# Altium footprint library 2.12-QFP封装.PcbLib: 44 footprints (part 1 of 3)
Each footprint in its own frame and in the unit in brackets; x right, y up, seen from the top. Pads: shape width x height; smd on the part's side, far side on the other; paste and mask are expansions set on the pad; w line width, h text height; cw(c..) or ccw(c..) is an arc to the next point about the centre after c.
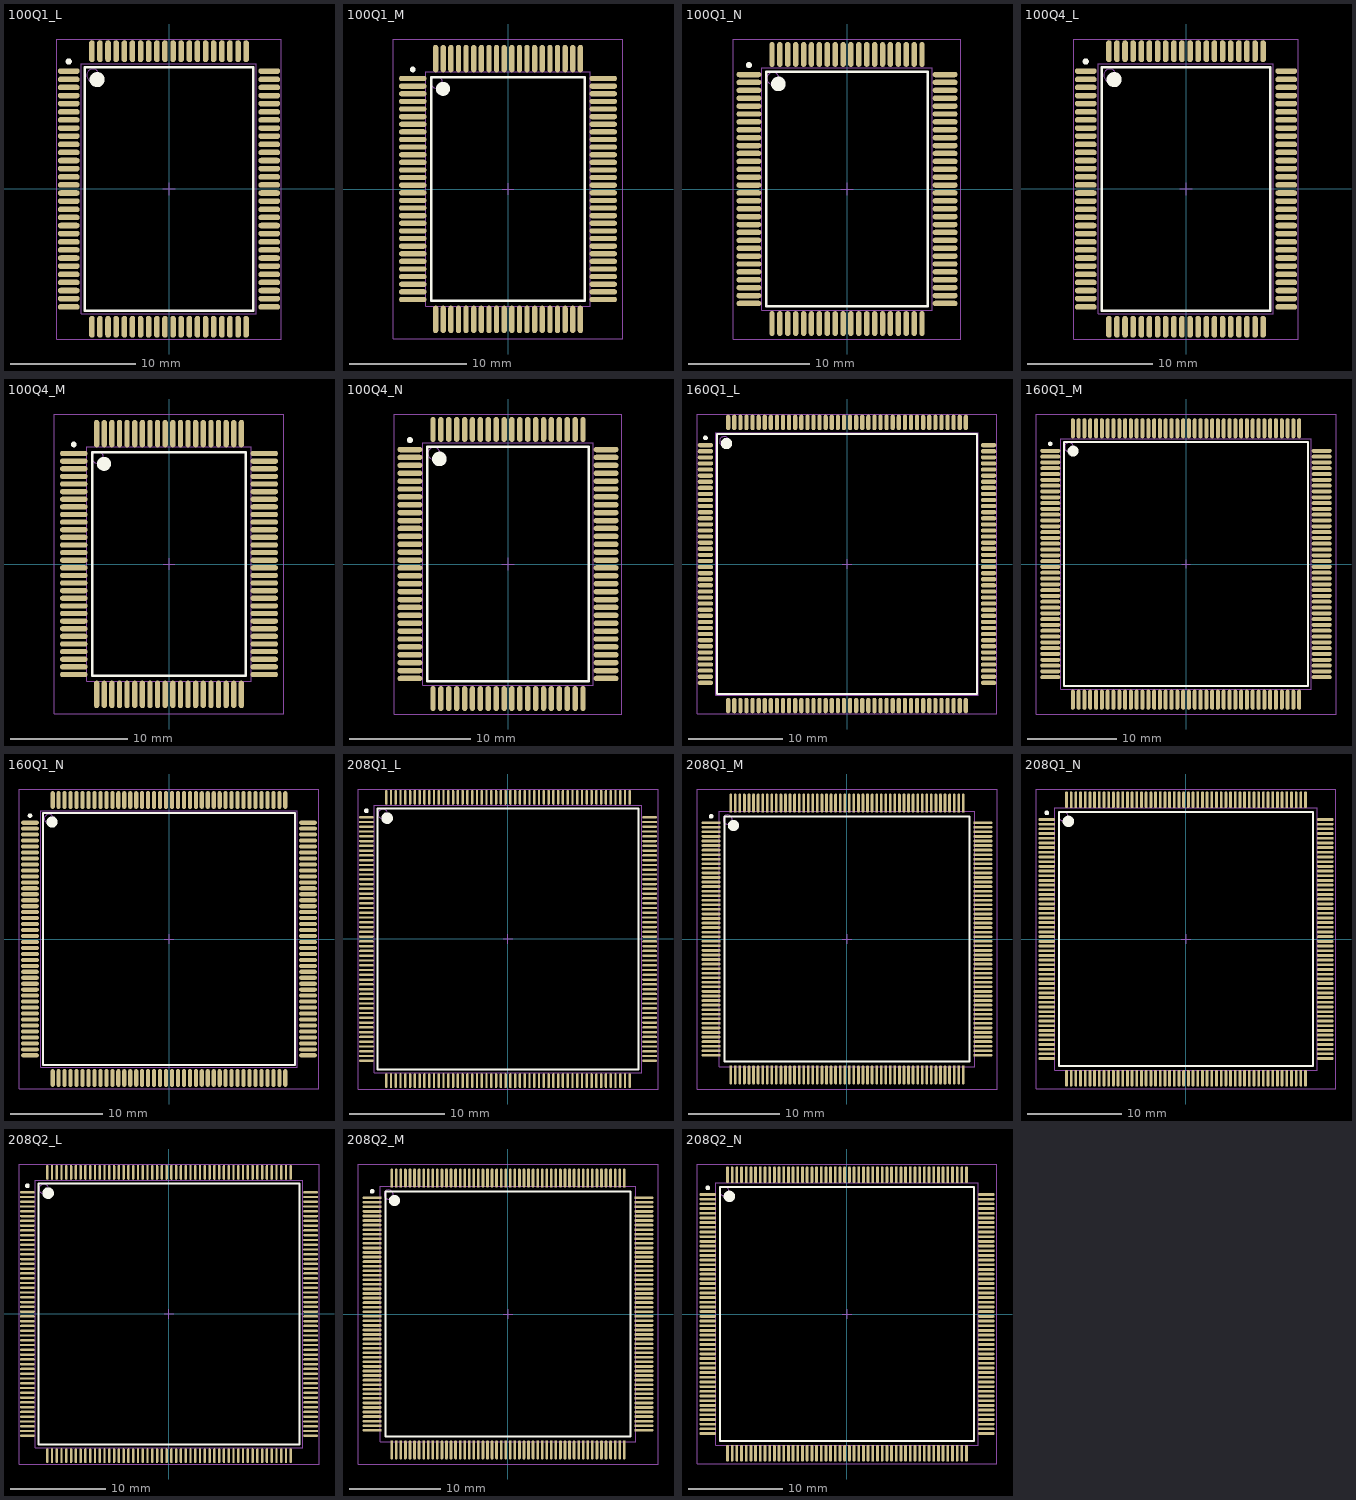
[diagram p0: the footprints below, top view; thin cyan lines are the x and y axes]

## 100Q1_L [mm] "100-Pin Quad Flat Pack Rectangular 0.65 mm Pitch      [ PCBѧϰȺ514746572 ]"
height 3.4
pads (100):
  oval 1.75x0.45 smd: 1(-8.025,9.425) 2(-8.025,8.775) 3(-8.025,8.125) 4(-8.025,7.475) 5(-8.025,6.825) 6(-8.025,6.175) 7(-8.025,5.525) 8(-8.025,4.875) 9(-8.025,4.225) 10(-8.025,3.575) 11(-8.025,2.925) 12(-8.025,2.275) 13(-8.025,1.625) 14(-8.025,0.975) 15(-8.025,0.325) 16(-8.025,-0.325) 17(-8.025,-0.975) 18(-8.025,-1.625) 19(-8.025,-2.275) 20(-8.025,-2.925) 21(-8.025,-3.575) 22(-8.025,-4.225) 23(-8.025,-4.875) 24(-8.025,-5.525) 25(-8.025,-6.175) 26(-8.025,-6.825) 27(-8.025,-7.475) 28(-8.025,-8.125) 29(-8.025,-8.775) 30(-8.025,-9.425) 51(8.025,-9.425) 52(8.025,-8.775) 53(8.025,-8.125) 54(8.025,-7.475) 55(8.025,-6.825) 56(8.025,-6.175) 57(8.025,-5.525) 58(8.025,-4.875) 59(8.025,-4.225) 60(8.025,-3.575) 61(8.025,-2.925) 62(8.025,-2.275) 63(8.025,-1.625) 64(8.025,-0.975) 65(8.025,-0.325) 66(8.025,0.325) 67(8.025,0.975) 68(8.025,1.625) 69(8.025,2.275) 70(8.025,2.925) 71(8.025,3.575) 72(8.025,4.225) 73(8.025,4.875) 74(8.025,5.525) 75(8.025,6.175) 76(8.025,6.825) 77(8.025,7.475) 78(8.025,8.125) 79(8.025,8.775) 80(8.025,9.425)
  oval 0.45x1.75 smd: 31(-6.175,-11.025) 32(-5.525,-11.025) 33(-4.875,-11.025) 34(-4.225,-11.025) 35(-3.575,-11.025) 36(-2.925,-11.025) 37(-2.275,-11.025) 38(-1.625,-11.025) 39(-0.975,-11.025) 40(-0.325,-11.025) 41(0.325,-11.025) 42(0.975,-11.025) 43(1.625,-11.025) 44(2.275,-11.025) 45(2.925,-11.025) 46(3.575,-11.025) 47(4.225,-11.025) 48(4.875,-11.025) 49(5.525,-11.025) 50(6.175,-11.025) 81(6.175,11.025) 82(5.525,11.025) 83(4.875,11.025) 84(4.225,11.025) 85(3.575,11.025) 86(2.925,11.025) 87(2.275,11.025) 88(1.625,11.025) 89(0.975,11.025) 90(0.325,11.025) 91(-0.325,11.025) 92(-0.975,11.025) 93(-1.625,11.025) 94(-2.275,11.025) 95(-2.925,11.025) 96(-3.575,11.025) 97(-4.225,11.025) 98(-4.875,11.025) 99(-5.525,11.025) 100(-6.175,11.025)
Top Overlay:
  circle w0.6: c-5.75,8.75 r0.3
  circle w0.25: c-8.025,10.2 r0.125
  lines w0.2: -6.75,-9.75 6.75,-9.75 6.75,9.75 -6.75,9.75 -6.75,-9.75
Mechanical 13:
  circle w0.1: c-6.1,9.1 r0.5
  lines w0.1: -7,-10 7,-10 7,10 -7,10 -7,-10
Mechanical 15:
  lines w0.1: -0.5,0 0.5,0 ; 0,-0.5 0,0.5 ; -9,-12 9,-12 9,12 -9,12 -9,-12
3D body: height 3.4, standoff 0, extent -7,-10 7,10

## 100Q1_M [mm] "100-Pin Quad Flat Pack Rectangular 0.65 mm Pitch, IPC Low Density      [ PCBѧϰȺ514746572 ]"
height 3.4
pads (100):
  oval 2.35x0.45 smd: 1(-8.125,9.425) 2(-8.125,8.775) 3(-8.125,8.125) 4(-8.125,7.475) 5(-8.125,6.825) 6(-8.125,6.175) 7(-8.125,5.525) 8(-8.125,4.875) 9(-8.125,4.225) 10(-8.125,3.575) 11(-8.125,2.925) 12(-8.125,2.275) 13(-8.125,1.625) 14(-8.125,0.975) 15(-8.125,0.325) 16(-8.125,-0.325) 17(-8.125,-0.975) 18(-8.125,-1.625) 19(-8.125,-2.275) 20(-8.125,-2.925) 21(-8.125,-3.575) 22(-8.125,-4.225) 23(-8.125,-4.875) 24(-8.125,-5.525) 25(-8.125,-6.175) 26(-8.125,-6.825) 27(-8.125,-7.475) 28(-8.125,-8.125) 29(-8.125,-8.775) 30(-8.125,-9.425) 51(8.125,-9.425) 52(8.125,-8.775) 53(8.125,-8.125) 54(8.125,-7.475) 55(8.125,-6.825) 56(8.125,-6.175) 57(8.125,-5.525) 58(8.125,-4.875) 59(8.125,-4.225) 60(8.125,-3.575) 61(8.125,-2.925) 62(8.125,-2.275) 63(8.125,-1.625) 64(8.125,-0.975) 65(8.125,-0.325) 66(8.125,0.325) 67(8.125,0.975) 68(8.125,1.625) 69(8.125,2.275) 70(8.125,2.925) 71(8.125,3.575) 72(8.125,4.225) 73(8.125,4.875) 74(8.125,5.525) 75(8.125,6.175) 76(8.125,6.825) 77(8.125,7.475) 78(8.125,8.125) 79(8.125,8.775) 80(8.125,9.425)
  oval 0.45x2.35 smd: 31(-6.175,-11.125) 32(-5.525,-11.125) 33(-4.875,-11.125) 34(-4.225,-11.125) 35(-3.575,-11.125) 36(-2.925,-11.125) 37(-2.275,-11.125) 38(-1.625,-11.125) 39(-0.975,-11.125) 40(-0.325,-11.125) 41(0.325,-11.125) 42(0.975,-11.125) 43(1.625,-11.125) 44(2.275,-11.125) 45(2.925,-11.125) 46(3.575,-11.125) 47(4.225,-11.125) 48(4.875,-11.125) 49(5.525,-11.125) 50(6.175,-11.125) 81(6.175,11.125) 82(5.525,11.125) 83(4.875,11.125) 84(4.225,11.125) 85(3.575,11.125) 86(2.925,11.125) 87(2.275,11.125) 88(1.625,11.125) 89(0.975,11.125) 90(0.325,11.125) 91(-0.325,11.125) 92(-0.975,11.125) 93(-1.625,11.125) 94(-2.275,11.125) 95(-2.925,11.125) 96(-3.575,11.125) 97(-4.225,11.125) 98(-4.875,11.125) 99(-5.525,11.125) 100(-6.175,11.125)
Top Overlay:
  circle w0.6: c-5.55,8.55 r0.3
  circle w0.25: c-8.125,10.2 r0.125
  lines w0.2: -6.55,-9.55 6.55,-9.55 6.55,9.55 -6.55,9.55 -6.55,-9.55
Mechanical 13:
  circle w0.1: c-6.1,9.1 r0.5
  lines w0.1: -7,-10 7,-10 7,10 -7,10 -7,-10
Mechanical 15:
  lines w0.1: -0.5,0 0.5,0 ; 0,-0.5 0,0.5 ; -9.8,-12.8 9.8,-12.8 9.8,12.8 -9.8,12.8 -9.8,-12.8
3D body: height 3.4, standoff 0, extent -7,-10 7,10

## 100Q1_N [mm] "100-Pin Quad Flat Pack Rectangular 0.65 mm Pitch, IPC Medium Density      [ PCBѧϰȺ514746572 ]"
height 3.4
pads (100):
  oval 2.05x0.45 smd: 1(-8.075,9.425) 2(-8.075,8.775) 3(-8.075,8.125) 4(-8.075,7.475) 5(-8.075,6.825) 6(-8.075,6.175) 7(-8.075,5.525) 8(-8.075,4.875) 9(-8.075,4.225) 10(-8.075,3.575) 11(-8.075,2.925) 12(-8.075,2.275) 13(-8.075,1.625) 14(-8.075,0.975) 15(-8.075,0.325) 16(-8.075,-0.325) 17(-8.075,-0.975) 18(-8.075,-1.625) 19(-8.075,-2.275) 20(-8.075,-2.925) 21(-8.075,-3.575) 22(-8.075,-4.225) 23(-8.075,-4.875) 24(-8.075,-5.525) 25(-8.075,-6.175) 26(-8.075,-6.825) 27(-8.075,-7.475) 28(-8.075,-8.125) 29(-8.075,-8.775) 30(-8.075,-9.425) 51(8.075,-9.425) 52(8.075,-8.775) 53(8.075,-8.125) 54(8.075,-7.475) 55(8.075,-6.825) 56(8.075,-6.175) 57(8.075,-5.525) 58(8.075,-4.875) 59(8.075,-4.225) 60(8.075,-3.575) 61(8.075,-2.925) 62(8.075,-2.275) 63(8.075,-1.625) 64(8.075,-0.975) 65(8.075,-0.325) 66(8.075,0.325) 67(8.075,0.975) 68(8.075,1.625) 69(8.075,2.275) 70(8.075,2.925) 71(8.075,3.575) 72(8.075,4.225) 73(8.075,4.875) 74(8.075,5.525) 75(8.075,6.175) 76(8.075,6.825) 77(8.075,7.475) 78(8.075,8.125) 79(8.075,8.775) 80(8.075,9.425)
  oval 0.45x2.05 smd: 31(-6.175,-11.075) 32(-5.525,-11.075) 33(-4.875,-11.075) 34(-4.225,-11.075) 35(-3.575,-11.075) 36(-2.925,-11.075) 37(-2.275,-11.075) 38(-1.625,-11.075) 39(-0.975,-11.075) 40(-0.325,-11.075) 41(0.325,-11.075) 42(0.975,-11.075) 43(1.625,-11.075) 44(2.275,-11.075) 45(2.925,-11.075) 46(3.575,-11.075) 47(4.225,-11.075) 48(4.875,-11.075) 49(5.525,-11.075) 50(6.175,-11.075) 81(6.175,11.075) 82(5.525,11.075) 83(4.875,11.075) 84(4.225,11.075) 85(3.575,11.075) 86(2.925,11.075) 87(2.275,11.075) 88(1.625,11.075) 89(0.975,11.075) 90(0.325,11.075) 91(-0.325,11.075) 92(-0.975,11.075) 93(-1.625,11.075) 94(-2.275,11.075) 95(-2.925,11.075) 96(-3.575,11.075) 97(-4.225,11.075) 98(-4.875,11.075) 99(-5.525,11.075) 100(-6.175,11.075)
Top Overlay:
  circle w0.6: c-5.65,8.65 r0.3
  circle w0.25: c-8.075,10.2 r0.125
  lines w0.2: -6.65,-9.65 6.65,-9.65 6.65,9.65 -6.65,9.65 -6.65,-9.65
Mechanical 13:
  circle w0.1: c-6.1,9.1 r0.5
  lines w0.1: -7,-10 7,-10 7,10 -7,10 -7,-10
Mechanical 15:
  lines w0.1: -0.5,0 0.5,0 ; 0,-0.5 0,0.5 ; -9.35,-12.35 9.35,-12.35 9.35,12.35 -9.35,12.35 -9.35,-12.35
3D body: height 3.4, standoff 0, extent -7,-10 7,10

## 100Q4_L [mm] "100-Pin Quad Flat Pack Rectangular 0.65 mm Pitch, IPC High Density      [ PCBѧϰȺ514746572 ]"
height 2.9
pads (100):
  oval 1.75x0.45 smd: 1(-8.025,9.425) 2(-8.025,8.775) 3(-8.025,8.125) 4(-8.025,7.475) 5(-8.025,6.825) 6(-8.025,6.175) 7(-8.025,5.525) 8(-8.025,4.875) 9(-8.025,4.225) 10(-8.025,3.575) 11(-8.025,2.925) 12(-8.025,2.275) 13(-8.025,1.625) 14(-8.025,0.975) 15(-8.025,0.325) 16(-8.025,-0.325) 17(-8.025,-0.975) 18(-8.025,-1.625) 19(-8.025,-2.275) 20(-8.025,-2.925) 21(-8.025,-3.575) 22(-8.025,-4.225) 23(-8.025,-4.875) 24(-8.025,-5.525) 25(-8.025,-6.175) 26(-8.025,-6.825) 27(-8.025,-7.475) 28(-8.025,-8.125) 29(-8.025,-8.775) 30(-8.025,-9.425) 51(8.025,-9.425) 52(8.025,-8.775) 53(8.025,-8.125) 54(8.025,-7.475) 55(8.025,-6.825) 56(8.025,-6.175) 57(8.025,-5.525) 58(8.025,-4.875) 59(8.025,-4.225) 60(8.025,-3.575) 61(8.025,-2.925) 62(8.025,-2.275) 63(8.025,-1.625) 64(8.025,-0.975) 65(8.025,-0.325) 66(8.025,0.325) 67(8.025,0.975) 68(8.025,1.625) 69(8.025,2.275) 70(8.025,2.925) 71(8.025,3.575) 72(8.025,4.225) 73(8.025,4.875) 74(8.025,5.525) 75(8.025,6.175) 76(8.025,6.825) 77(8.025,7.475) 78(8.025,8.125) 79(8.025,8.775) 80(8.025,9.425)
  oval 0.45x1.75 smd: 31(-6.175,-11.025) 32(-5.525,-11.025) 33(-4.875,-11.025) 34(-4.225,-11.025) 35(-3.575,-11.025) 36(-2.925,-11.025) 37(-2.275,-11.025) 38(-1.625,-11.025) 39(-0.975,-11.025) 40(-0.325,-11.025) 41(0.325,-11.025) 42(0.975,-11.025) 43(1.625,-11.025) 44(2.275,-11.025) 45(2.925,-11.025) 46(3.575,-11.025) 47(4.225,-11.025) 48(4.875,-11.025) 49(5.525,-11.025) 50(6.175,-11.025) 81(6.175,11.025) 82(5.525,11.025) 83(4.875,11.025) 84(4.225,11.025) 85(3.575,11.025) 86(2.925,11.025) 87(2.275,11.025) 88(1.625,11.025) 89(0.975,11.025) 90(0.325,11.025) 91(-0.325,11.025) 92(-0.975,11.025) 93(-1.625,11.025) 94(-2.275,11.025) 95(-2.925,11.025) 96(-3.575,11.025) 97(-4.225,11.025) 98(-4.875,11.025) 99(-5.525,11.025) 100(-6.175,11.025)
Top Overlay:
  circle w0.25: c-8.025,10.2 r0.125
  circle w0.6: c-5.75,8.75 r0.3
  lines w0.2: -6.75,-9.75 -6.75,9.75 6.75,9.75 6.75,-9.75 -6.75,-9.75
Mechanical 13:
  circle w0.1: c-6.1,9.1 r0.5
  lines w0.1: -7,-10 -7,10 7,10 7,-10 -7,-10
Mechanical 15:
  lines w0.1: -0.5,0 0.5,0 ; 0,-0.5 0,0.5 ; -9,-12 -9,12 9,12 9,-12 -9,-12
3D body: height 2.9, standoff 0, extent -7,-10 7,10

## 100Q4_M [mm] "100-Pin Quad Flat Pack Rectangular 0.65 mm Pitch, IPC Low Density      [ PCBѧϰȺ514746572 ]"
height 2.9
pads (100):
  oval 2.35x0.45 smd: 1(-8.125,9.425) 2(-8.125,8.775) 3(-8.125,8.125) 4(-8.125,7.475) 5(-8.125,6.825) 6(-8.125,6.175) 7(-8.125,5.525) 8(-8.125,4.875) 9(-8.125,4.225) 10(-8.125,3.575) 11(-8.125,2.925) 12(-8.125,2.275) 13(-8.125,1.625) 14(-8.125,0.975) 15(-8.125,0.325) 16(-8.125,-0.325) 17(-8.125,-0.975) 18(-8.125,-1.625) 19(-8.125,-2.275) 20(-8.125,-2.925) 21(-8.125,-3.575) 22(-8.125,-4.225) 23(-8.125,-4.875) 24(-8.125,-5.525) 25(-8.125,-6.175) 26(-8.125,-6.825) 27(-8.125,-7.475) 28(-8.125,-8.125) 29(-8.125,-8.775) 30(-8.125,-9.425) 51(8.125,-9.425) 52(8.125,-8.775) 53(8.125,-8.125) 54(8.125,-7.475) 55(8.125,-6.825) 56(8.125,-6.175) 57(8.125,-5.525) 58(8.125,-4.875) 59(8.125,-4.225) 60(8.125,-3.575) 61(8.125,-2.925) 62(8.125,-2.275) 63(8.125,-1.625) 64(8.125,-0.975) 65(8.125,-0.325) 66(8.125,0.325) 67(8.125,0.975) 68(8.125,1.625) 69(8.125,2.275) 70(8.125,2.925) 71(8.125,3.575) 72(8.125,4.225) 73(8.125,4.875) 74(8.125,5.525) 75(8.125,6.175) 76(8.125,6.825) 77(8.125,7.475) 78(8.125,8.125) 79(8.125,8.775) 80(8.125,9.425)
  oval 0.45x2.35 smd: 31(-6.175,-11.125) 32(-5.525,-11.125) 33(-4.875,-11.125) 34(-4.225,-11.125) 35(-3.575,-11.125) 36(-2.925,-11.125) 37(-2.275,-11.125) 38(-1.625,-11.125) 39(-0.975,-11.125) 40(-0.325,-11.125) 41(0.325,-11.125) 42(0.975,-11.125) 43(1.625,-11.125) 44(2.275,-11.125) 45(2.925,-11.125) 46(3.575,-11.125) 47(4.225,-11.125) 48(4.875,-11.125) 49(5.525,-11.125) 50(6.175,-11.125) 81(6.175,11.125) 82(5.525,11.125) 83(4.875,11.125) 84(4.225,11.125) 85(3.575,11.125) 86(2.925,11.125) 87(2.275,11.125) 88(1.625,11.125) 89(0.975,11.125) 90(0.325,11.125) 91(-0.325,11.125) 92(-0.975,11.125) 93(-1.625,11.125) 94(-2.275,11.125) 95(-2.925,11.125) 96(-3.575,11.125) 97(-4.225,11.125) 98(-4.875,11.125) 99(-5.525,11.125) 100(-6.175,11.125)
Top Overlay:
  circle w0.25: c-8.125,10.2 r0.125
  circle w0.6: c-5.55,8.55 r0.3
  lines w0.2: -6.55,-9.55 -6.55,9.55 6.55,9.55 6.55,-9.55 -6.55,-9.55
Mechanical 13:
  circle w0.1: c-6.1,9.1 r0.5
  lines w0.1: -7,-10 -7,10 7,10 7,-10 -7,-10
Mechanical 15:
  lines w0.1: -0.5,0 0.5,0 ; 0,-0.5 0,0.5 ; -9.8,-12.8 -9.8,12.8 9.8,12.8 9.8,-12.8 -9.8,-12.8
3D body: height 2.9, standoff 0, extent -7,-10 7,10

## 100Q4_N [mm] "100-Pin Quad Flat Pack Rectangular 0.65 mm Pitch, IPC Medium Density      [ PCBѧϰȺ514746572 ]"
height 2.9
pads (100):
  oval 2.05x0.45 smd: 1(-8.075,9.425) 2(-8.075,8.775) 3(-8.075,8.125) 4(-8.075,7.475) 5(-8.075,6.825) 6(-8.075,6.175) 7(-8.075,5.525) 8(-8.075,4.875) 9(-8.075,4.225) 10(-8.075,3.575) 11(-8.075,2.925) 12(-8.075,2.275) 13(-8.075,1.625) 14(-8.075,0.975) 15(-8.075,0.325) 16(-8.075,-0.325) 17(-8.075,-0.975) 18(-8.075,-1.625) 19(-8.075,-2.275) 20(-8.075,-2.925) 21(-8.075,-3.575) 22(-8.075,-4.225) 23(-8.075,-4.875) 24(-8.075,-5.525) 25(-8.075,-6.175) 26(-8.075,-6.825) 27(-8.075,-7.475) 28(-8.075,-8.125) 29(-8.075,-8.775) 30(-8.075,-9.425) 51(8.075,-9.425) 52(8.075,-8.775) 53(8.075,-8.125) 54(8.075,-7.475) 55(8.075,-6.825) 56(8.075,-6.175) 57(8.075,-5.525) 58(8.075,-4.875) 59(8.075,-4.225) 60(8.075,-3.575) 61(8.075,-2.925) 62(8.075,-2.275) 63(8.075,-1.625) 64(8.075,-0.975) 65(8.075,-0.325) 66(8.075,0.325) 67(8.075,0.975) 68(8.075,1.625) 69(8.075,2.275) 70(8.075,2.925) 71(8.075,3.575) 72(8.075,4.225) 73(8.075,4.875) 74(8.075,5.525) 75(8.075,6.175) 76(8.075,6.825) 77(8.075,7.475) 78(8.075,8.125) 79(8.075,8.775) 80(8.075,9.425)
  oval 0.45x2.05 smd: 31(-6.175,-11.075) 32(-5.525,-11.075) 33(-4.875,-11.075) 34(-4.225,-11.075) 35(-3.575,-11.075) 36(-2.925,-11.075) 37(-2.275,-11.075) 38(-1.625,-11.075) 39(-0.975,-11.075) 40(-0.325,-11.075) 41(0.325,-11.075) 42(0.975,-11.075) 43(1.625,-11.075) 44(2.275,-11.075) 45(2.925,-11.075) 46(3.575,-11.075) 47(4.225,-11.075) 48(4.875,-11.075) 49(5.525,-11.075) 50(6.175,-11.075) 81(6.175,11.075) 82(5.525,11.075) 83(4.875,11.075) 84(4.225,11.075) 85(3.575,11.075) 86(2.925,11.075) 87(2.275,11.075) 88(1.625,11.075) 89(0.975,11.075) 90(0.325,11.075) 91(-0.325,11.075) 92(-0.975,11.075) 93(-1.625,11.075) 94(-2.275,11.075) 95(-2.925,11.075) 96(-3.575,11.075) 97(-4.225,11.075) 98(-4.875,11.075) 99(-5.525,11.075) 100(-6.175,11.075)
Top Overlay:
  circle w0.25: c-8.075,10.2 r0.125
  circle w0.6: c-5.65,8.65 r0.3
  lines w0.2: -6.65,-9.65 -6.65,9.65 6.65,9.65 6.65,-9.65 -6.65,-9.65
Mechanical 13:
  circle w0.1: c-6.1,9.1 r0.5
  lines w0.1: -7,-10 -7,10 7,10 7,-10 -7,-10
Mechanical 15:
  lines w0.1: -0.5,0 0.5,0 ; 0,-0.5 0,0.5 ; -9.35,-12.35 -9.35,12.35 9.35,12.35 9.35,-12.35 -9.35,-12.35
3D body: height 2.9, standoff 0, extent -7,-10 7,10

## 160Q1_L [mm] "160-Pin Quad Flat Pack 0.65 mm Pitch, IPC High Density      [ PCBѧϰȺ514746572 ]"
height 3.6
pads (160):
  oval 1.65x0.45 smd: 1(-15.1,12.675) 2(-15.1,12.025) 3(-15.1,11.375) 4(-15.1,10.725) 5(-15.1,10.075) 6(-15.1,9.425) 7(-15.1,8.775) 8(-15.1,8.125) 9(-15.1,7.475) 10(-15.1,6.825) 11(-15.1,6.175) 12(-15.1,5.525) 13(-15.1,4.875) 14(-15.1,4.225) 15(-15.1,3.575) 16(-15.1,2.925) 17(-15.1,2.275) 18(-15.1,1.625) 19(-15.1,0.975) 20(-15.1,0.325) 21(-15.1,-0.325) 22(-15.1,-0.975) 23(-15.1,-1.625) 24(-15.1,-2.275) 25(-15.1,-2.925) 26(-15.1,-3.575) 27(-15.1,-4.225) 28(-15.1,-4.875) 29(-15.1,-5.525) 30(-15.1,-6.175) 31(-15.1,-6.825) 32(-15.1,-7.475) 33(-15.1,-8.125) 34(-15.1,-8.775) 35(-15.1,-9.425) 36(-15.1,-10.075) 37(-15.1,-10.725) 38(-15.1,-11.375) 39(-15.1,-12.025) 40(-15.1,-12.675) 81(15.1,-12.675) 82(15.1,-12.025) 83(15.1,-11.375) 84(15.1,-10.725) 85(15.1,-10.075) 86(15.1,-9.425) 87(15.1,-8.775) 88(15.1,-8.125) 89(15.1,-7.475) 90(15.1,-6.825) 91(15.1,-6.175) 92(15.1,-5.525) 93(15.1,-4.875) 94(15.1,-4.225) 95(15.1,-3.575) 96(15.1,-2.925) 97(15.1,-2.275) 98(15.1,-1.625) 99(15.1,-0.975) 100(15.1,-0.325) 101(15.1,0.325) 102(15.1,0.975) 103(15.1,1.625) 104(15.1,2.275) 105(15.1,2.925) 106(15.1,3.575) 107(15.1,4.225) 108(15.1,4.875) 109(15.1,5.525) 110(15.1,6.175) 111(15.1,6.825) 112(15.1,7.475) 113(15.1,8.125) 114(15.1,8.775) 115(15.1,9.425) 116(15.1,10.075) 117(15.1,10.725) 118(15.1,11.375) 119(15.1,12.025) 120(15.1,12.675)
  oval 0.45x1.65 smd: 41(-12.675,-15.1) 42(-12.025,-15.1) 43(-11.375,-15.1) 44(-10.725,-15.1) 45(-10.075,-15.1) 46(-9.425,-15.1) 47(-8.775,-15.1) 48(-8.125,-15.1) 49(-7.475,-15.1) 50(-6.825,-15.1) 51(-6.175,-15.1) 52(-5.525,-15.1) 53(-4.875,-15.1) 54(-4.225,-15.1) 55(-3.575,-15.1) 56(-2.925,-15.1) 57(-2.275,-15.1) 58(-1.625,-15.1) 59(-0.975,-15.1) 60(-0.325,-15.1) 61(0.325,-15.1) 62(0.975,-15.1) 63(1.625,-15.1) 64(2.275,-15.1) 65(2.925,-15.1) 66(3.575,-15.1) 67(4.225,-15.1) 68(4.875,-15.1) 69(5.525,-15.1) 70(6.175,-15.1) 71(6.825,-15.1) 72(7.475,-15.1) 73(8.125,-15.1) 74(8.775,-15.1) 75(9.425,-15.1) 76(10.075,-15.1) 77(10.725,-15.1) 78(11.375,-15.1) 79(12.025,-15.1) 80(12.675,-15.1) 121(12.675,15.1) 122(12.025,15.1) 123(11.375,15.1) 124(10.725,15.1) 125(10.075,15.1) 126(9.425,15.1) 127(8.775,15.1) 128(8.125,15.1) 129(7.475,15.1) 130(6.825,15.1) 131(6.175,15.1) 132(5.525,15.1) 133(4.875,15.1) 134(4.225,15.1) 135(3.575,15.1) 136(2.925,15.1) 137(2.275,15.1) 138(1.625,15.1) 139(0.975,15.1) 140(0.325,15.1) 141(-0.325,15.1) 142(-0.975,15.1) 143(-1.625,15.1) 144(-2.275,15.1) 145(-2.925,15.1) 146(-3.575,15.1) 147(-4.225,15.1) 148(-4.875,15.1) 149(-5.525,15.1) 150(-6.175,15.1) 151(-6.825,15.1) 152(-7.475,15.1) 153(-8.125,15.1) 154(-8.775,15.1) 155(-9.425,15.1) 156(-10.075,15.1) 157(-10.725,15.1) 158(-11.375,15.1) 159(-12.025,15.1) 160(-12.675,15.1)
Top Overlay:
  circle w0.6: c-12.85,12.85 r0.3
  circle w0.25: c-15.1,13.45 r0.125
  lines w0.2: -13.85,-13.85 13.85,-13.85 13.85,13.85 -13.85,13.85 -13.85,-13.85
Mechanical 13:
  circle w0.1: c-13.1,13.1 r0.5
  lines w0.1: -14,-14 14,-14 14,14 -14,14 -14,-14
Mechanical 15:
  lines w0.1: -0.5,0 0.5,0 ; 0,-0.5 0,0.5 ; -16,-16 16,-16 16,16 -16,16 -16,-16
3D body: height 3.6, standoff 0, extent -14,-14 14,14

## 160Q1_M [mm] "160-Pin Quad Flat Pack 0.65 mm Pitch, IPC Low Density      [ PCBѧϰȺ514746572 ]"
height 3.6
pads (160):
  oval 2.25x0.45 smd: 1(-15.2,12.675) 2(-15.2,12.025) 3(-15.2,11.375) 4(-15.2,10.725) 5(-15.2,10.075) 6(-15.2,9.425) 7(-15.2,8.775) 8(-15.2,8.125) 9(-15.2,7.475) 10(-15.2,6.825) 11(-15.2,6.175) 12(-15.2,5.525) 13(-15.2,4.875) 14(-15.2,4.225) 15(-15.2,3.575) 16(-15.2,2.925) 17(-15.2,2.275) 18(-15.2,1.625) 19(-15.2,0.975) 20(-15.2,0.325) 21(-15.2,-0.325) 22(-15.2,-0.975) 23(-15.2,-1.625) 24(-15.2,-2.275) 25(-15.2,-2.925) 26(-15.2,-3.575) 27(-15.2,-4.225) 28(-15.2,-4.875) 29(-15.2,-5.525) 30(-15.2,-6.175) 31(-15.2,-6.825) 32(-15.2,-7.475) 33(-15.2,-8.125) 34(-15.2,-8.775) 35(-15.2,-9.425) 36(-15.2,-10.075) 37(-15.2,-10.725) 38(-15.2,-11.375) 39(-15.2,-12.025) 40(-15.2,-12.675) 81(15.2,-12.675) 82(15.2,-12.025) 83(15.2,-11.375) 84(15.2,-10.725) 85(15.2,-10.075) 86(15.2,-9.425) 87(15.2,-8.775) 88(15.2,-8.125) 89(15.2,-7.475) 90(15.2,-6.825) 91(15.2,-6.175) 92(15.2,-5.525) 93(15.2,-4.875) 94(15.2,-4.225) 95(15.2,-3.575) 96(15.2,-2.925) 97(15.2,-2.275) 98(15.2,-1.625) 99(15.2,-0.975) 100(15.2,-0.325) 101(15.2,0.325) 102(15.2,0.975) 103(15.2,1.625) 104(15.2,2.275) 105(15.2,2.925) 106(15.2,3.575) 107(15.2,4.225) 108(15.2,4.875) 109(15.2,5.525) 110(15.2,6.175) 111(15.2,6.825) 112(15.2,7.475) 113(15.2,8.125) 114(15.2,8.775) 115(15.2,9.425) 116(15.2,10.075) 117(15.2,10.725) 118(15.2,11.375) 119(15.2,12.025) 120(15.2,12.675)
  oval 0.45x2.25 smd: 41(-12.675,-15.2) 42(-12.025,-15.2) 43(-11.375,-15.2) 44(-10.725,-15.2) 45(-10.075,-15.2) 46(-9.425,-15.2) 47(-8.775,-15.2) 48(-8.125,-15.2) 49(-7.475,-15.2) 50(-6.825,-15.2) 51(-6.175,-15.2) 52(-5.525,-15.2) 53(-4.875,-15.2) 54(-4.225,-15.2) 55(-3.575,-15.2) 56(-2.925,-15.2) 57(-2.275,-15.2) 58(-1.625,-15.2) 59(-0.975,-15.2) 60(-0.325,-15.2) 61(0.325,-15.2) 62(0.975,-15.2) 63(1.625,-15.2) 64(2.275,-15.2) 65(2.925,-15.2) 66(3.575,-15.2) 67(4.225,-15.2) 68(4.875,-15.2) 69(5.525,-15.2) 70(6.175,-15.2) 71(6.825,-15.2) 72(7.475,-15.2) 73(8.125,-15.2) 74(8.775,-15.2) 75(9.425,-15.2) 76(10.075,-15.2) 77(10.725,-15.2) 78(11.375,-15.2) 79(12.025,-15.2) 80(12.675,-15.2) 121(12.675,15.2) 122(12.025,15.2) 123(11.375,15.2) 124(10.725,15.2) 125(10.075,15.2) 126(9.425,15.2) 127(8.775,15.2) 128(8.125,15.2) 129(7.475,15.2) 130(6.825,15.2) 131(6.175,15.2) 132(5.525,15.2) 133(4.875,15.2) 134(4.225,15.2) 135(3.575,15.2) 136(2.925,15.2) 137(2.275,15.2) 138(1.625,15.2) 139(0.975,15.2) 140(0.325,15.2) 141(-0.325,15.2) 142(-0.975,15.2) 143(-1.625,15.2) 144(-2.275,15.2) 145(-2.925,15.2) 146(-3.575,15.2) 147(-4.225,15.2) 148(-4.875,15.2) 149(-5.525,15.2) 150(-6.175,15.2) 151(-6.825,15.2) 152(-7.475,15.2) 153(-8.125,15.2) 154(-8.775,15.2) 155(-9.425,15.2) 156(-10.075,15.2) 157(-10.725,15.2) 158(-11.375,15.2) 159(-12.025,15.2) 160(-12.675,15.2)
Top Overlay:
  circle w0.6: c-12.65,12.65 r0.3
  circle w0.25: c-15.2,13.45 r0.125
  lines w0.2: -13.65,-13.65 13.65,-13.65 13.65,13.65 -13.65,13.65 -13.65,-13.65
Mechanical 13:
  circle w0.1: c-13.1,13.1 r0.5
  lines w0.1: -14,-14 14,-14 14,14 -14,14 -14,-14
Mechanical 15:
  lines w0.1: -0.5,0 0.5,0 ; 0,-0.5 0,0.5 ; -16.8,-16.8 16.8,-16.8 16.8,16.8 -16.8,16.8 -16.8,-16.8
3D body: height 3.6, standoff 0, extent -14,-14 14,14

## 160Q1_N [mm] "160-Pin Quad Flat Pack 0.65 mm Pitch, IPC Medium Density      [ PCBѧϰȺ514746572 ]"
height 3.6
pads (160):
  oval 1.95x0.45 smd: 1(-15.15,12.675) 2(-15.15,12.025) 3(-15.15,11.375) 4(-15.15,10.725) 5(-15.15,10.075) 6(-15.15,9.425) 7(-15.15,8.775) 8(-15.15,8.125) 9(-15.15,7.475) 10(-15.15,6.825) 11(-15.15,6.175) 12(-15.15,5.525) 13(-15.15,4.875) 14(-15.15,4.225) 15(-15.15,3.575) 16(-15.15,2.925) 17(-15.15,2.275) 18(-15.15,1.625) 19(-15.15,0.975) 20(-15.15,0.325) 21(-15.15,-0.325) 22(-15.15,-0.975) 23(-15.15,-1.625) 24(-15.15,-2.275) 25(-15.15,-2.925) 26(-15.15,-3.575) 27(-15.15,-4.225) 28(-15.15,-4.875) 29(-15.15,-5.525) 30(-15.15,-6.175) 31(-15.15,-6.825) 32(-15.15,-7.475) 33(-15.15,-8.125) 34(-15.15,-8.775) 35(-15.15,-9.425) 36(-15.15,-10.075) 37(-15.15,-10.725) 38(-15.15,-11.375) 39(-15.15,-12.025) 40(-15.15,-12.675) 81(15.15,-12.675) 82(15.15,-12.025) 83(15.15,-11.375) 84(15.15,-10.725) 85(15.15,-10.075) 86(15.15,-9.425) 87(15.15,-8.775) 88(15.15,-8.125) 89(15.15,-7.475) 90(15.15,-6.825) 91(15.15,-6.175) 92(15.15,-5.525) 93(15.15,-4.875) 94(15.15,-4.225) 95(15.15,-3.575) 96(15.15,-2.925) 97(15.15,-2.275) 98(15.15,-1.625) 99(15.15,-0.975) 100(15.15,-0.325) 101(15.15,0.325) 102(15.15,0.975) 103(15.15,1.625) 104(15.15,2.275) 105(15.15,2.925) 106(15.15,3.575) 107(15.15,4.225) 108(15.15,4.875) 109(15.15,5.525) 110(15.15,6.175) 111(15.15,6.825) 112(15.15,7.475) 113(15.15,8.125) 114(15.15,8.775) 115(15.15,9.425) 116(15.15,10.075) 117(15.15,10.725) 118(15.15,11.375) 119(15.15,12.025) 120(15.15,12.675)
  oval 0.45x1.95 smd: 41(-12.675,-15.15) 42(-12.025,-15.15) 43(-11.375,-15.15) 44(-10.725,-15.15) 45(-10.075,-15.15) 46(-9.425,-15.15) 47(-8.775,-15.15) 48(-8.125,-15.15) 49(-7.475,-15.15) 50(-6.825,-15.15) 51(-6.175,-15.15) 52(-5.525,-15.15) 53(-4.875,-15.15) 54(-4.225,-15.15) 55(-3.575,-15.15) 56(-2.925,-15.15) 57(-2.275,-15.15) 58(-1.625,-15.15) 59(-0.975,-15.15) 60(-0.325,-15.15) 61(0.325,-15.15) 62(0.975,-15.15) 63(1.625,-15.15) 64(2.275,-15.15) 65(2.925,-15.15) 66(3.575,-15.15) 67(4.225,-15.15) 68(4.875,-15.15) 69(5.525,-15.15) 70(6.175,-15.15) 71(6.825,-15.15) 72(7.475,-15.15) 73(8.125,-15.15) 74(8.775,-15.15) 75(9.425,-15.15) 76(10.075,-15.15) 77(10.725,-15.15) 78(11.375,-15.15) 79(12.025,-15.15) 80(12.675,-15.15) 121(12.675,15.15) 122(12.025,15.15) 123(11.375,15.15) 124(10.725,15.15) 125(10.075,15.15) 126(9.425,15.15) 127(8.775,15.15) 128(8.125,15.15) 129(7.475,15.15) 130(6.825,15.15) 131(6.175,15.15) 132(5.525,15.15) 133(4.875,15.15) 134(4.225,15.15) 135(3.575,15.15) 136(2.925,15.15) 137(2.275,15.15) 138(1.625,15.15) 139(0.975,15.15) 140(0.325,15.15) 141(-0.325,15.15) 142(-0.975,15.15) 143(-1.625,15.15) 144(-2.275,15.15) 145(-2.925,15.15) 146(-3.575,15.15) 147(-4.225,15.15) 148(-4.875,15.15) 149(-5.525,15.15) 150(-6.175,15.15) 151(-6.825,15.15) 152(-7.475,15.15) 153(-8.125,15.15) 154(-8.775,15.15) 155(-9.425,15.15) 156(-10.075,15.15) 157(-10.725,15.15) 158(-11.375,15.15) 159(-12.025,15.15) 160(-12.675,15.15)
Top Overlay:
  circle w0.6: c-12.75,12.75 r0.3
  circle w0.25: c-15.15,13.45 r0.125
  lines w0.2: -13.75,-13.75 13.75,-13.75 13.75,13.75 -13.75,13.75 -13.75,-13.75
Mechanical 13:
  circle w0.1: c-13.1,13.1 r0.5
  lines w0.1: -14,-14 14,-14 14,14 -14,14 -14,-14
Mechanical 15:
  lines w0.1: -0.5,0 0.5,0 ; 0,-0.5 0,0.5 ; -16.35,-16.35 16.35,-16.35 16.35,16.35 -16.35,16.35 -16.35,-16.35
3D body: height 3.6, standoff 0, extent -14,-14 14,14

## 208Q1_L [mm] "208-Pin Shrink Quad Flat Pack 0.5 mm Pitch, IPC High Density      [ PCBѧϰȺ514746572 ]"
height 4.02
pads (208):
  oval 1.55x0.25 smd: 1(-14.825,12.75) 2(-14.825,12.25) 3(-14.825,11.75) 4(-14.825,11.25) 5(-14.825,10.75) 6(-14.825,10.25) 7(-14.825,9.75) 8(-14.825,9.25) 9(-14.825,8.75) 10(-14.825,8.25) 11(-14.825,7.75) 12(-14.825,7.25) 13(-14.825,6.75) 14(-14.825,6.25) 15(-14.825,5.75) 16(-14.825,5.25) 17(-14.825,4.75) 18(-14.825,4.25) 19(-14.825,3.75) 20(-14.825,3.25) 21(-14.825,2.75) 22(-14.825,2.25) 23(-14.825,1.75) 24(-14.825,1.25) 25(-14.825,0.75) 26(-14.825,0.25) 27(-14.825,-0.25) 28(-14.825,-0.75) 29(-14.825,-1.25) 30(-14.825,-1.75) 31(-14.825,-2.25) 32(-14.825,-2.75) 33(-14.825,-3.25) 34(-14.825,-3.75) 35(-14.825,-4.25) 36(-14.825,-4.75) 37(-14.825,-5.25) 38(-14.825,-5.75) 39(-14.825,-6.25) 40(-14.825,-6.75) 41(-14.825,-7.25) 42(-14.825,-7.75) 43(-14.825,-8.25) 44(-14.825,-8.75) 45(-14.825,-9.25) 46(-14.825,-9.75) 47(-14.825,-10.25) 48(-14.825,-10.75) 49(-14.825,-11.25) 50(-14.825,-11.75) 51(-14.825,-12.25) 52(-14.825,-12.75) 105(14.825,-12.75) 106(14.825,-12.25) 107(14.825,-11.75) 108(14.825,-11.25) 109(14.825,-10.75) 110(14.825,-10.25) 111(14.825,-9.75) 112(14.825,-9.25) 113(14.825,-8.75) 114(14.825,-8.25) 115(14.825,-7.75) 116(14.825,-7.25) 117(14.825,-6.75) 118(14.825,-6.25) 119(14.825,-5.75) 120(14.825,-5.25) 121(14.825,-4.75) 122(14.825,-4.25) 123(14.825,-3.75) 124(14.825,-3.25) 125(14.825,-2.75) 126(14.825,-2.25) 127(14.825,-1.75) 128(14.825,-1.25) 129(14.825,-0.75) 130(14.825,-0.25) 131(14.825,0.25) 132(14.825,0.75) 133(14.825,1.25) 134(14.825,1.75) 135(14.825,2.25) 136(14.825,2.75) 137(14.825,3.25) 138(14.825,3.75) 139(14.825,4.25) 140(14.825,4.75) 141(14.825,5.25) 142(14.825,5.75) 143(14.825,6.25) 144(14.825,6.75) 145(14.825,7.25) 146(14.825,7.75) 147(14.825,8.25) 148(14.825,8.75) 149(14.825,9.25) 150(14.825,9.75) 151(14.825,10.25) 152(14.825,10.75) 153(14.825,11.25) 154(14.825,11.75) 155(14.825,12.25) 156(14.825,12.75)
  oval 0.25x1.55 smd: 53(-12.75,-14.825) 54(-12.25,-14.825) 55(-11.75,-14.825) 56(-11.25,-14.825) 57(-10.75,-14.825) 58(-10.25,-14.825) 59(-9.75,-14.825) 60(-9.25,-14.825) 61(-8.75,-14.825) 62(-8.25,-14.825) 63(-7.75,-14.825) 64(-7.25,-14.825) 65(-6.75,-14.825) 66(-6.25,-14.825) 67(-5.75,-14.825) 68(-5.25,-14.825) 69(-4.75,-14.825) 70(-4.25,-14.825) 71(-3.75,-14.825) 72(-3.25,-14.825) 73(-2.75,-14.825) 74(-2.25,-14.825) 75(-1.75,-14.825) 76(-1.25,-14.825) 77(-0.75,-14.825) 78(-0.25,-14.825) 79(0.25,-14.825) 80(0.75,-14.825) 81(1.25,-14.825) 82(1.75,-14.825) 83(2.25,-14.825) 84(2.75,-14.825) 85(3.25,-14.825) 86(3.75,-14.825) 87(4.25,-14.825) 88(4.75,-14.825) 89(5.25,-14.825) 90(5.75,-14.825) 91(6.25,-14.825) 92(6.75,-14.825) 93(7.25,-14.825) 94(7.75,-14.825) 95(8.25,-14.825) 96(8.75,-14.825) 97(9.25,-14.825) 98(9.75,-14.825) 99(10.25,-14.825) 100(10.75,-14.825) 101(11.25,-14.825) 102(11.75,-14.825) 103(12.25,-14.825) 104(12.75,-14.825) 157(12.75,14.825) 158(12.25,14.825) 159(11.75,14.825) 160(11.25,14.825) 161(10.75,14.825) 162(10.25,14.825) 163(9.75,14.825) 164(9.25,14.825) 165(8.75,14.825) 166(8.25,14.825) 167(7.75,14.825) 168(7.25,14.825) 169(6.75,14.825) 170(6.25,14.825) 171(5.75,14.825) 172(5.25,14.825) 173(4.75,14.825) 174(4.25,14.825) 175(3.75,14.825) 176(3.25,14.825) 177(2.75,14.825) 178(2.25,14.825) 179(1.75,14.825) 180(1.25,14.825) 181(0.75,14.825) 182(0.25,14.825) 183(-0.25,14.825) 184(-0.75,14.825) 185(-1.25,14.825) 186(-1.75,14.825) 187(-2.25,14.825) 188(-2.75,14.825) 189(-3.25,14.825) 190(-3.75,14.825) 191(-4.25,14.825) 192(-4.75,14.825) 193(-5.25,14.825) 194(-5.75,14.825) 195(-6.25,14.825) 196(-6.75,14.825) 197(-7.25,14.825) 198(-7.75,14.825) 199(-8.25,14.825) 200(-8.75,14.825) 201(-9.25,14.825) 202(-9.75,14.825) 203(-10.25,14.825) 204(-10.75,14.825) 205(-11.25,14.825) 206(-11.75,14.825) 207(-12.25,14.825) 208(-12.75,14.825)
Top Overlay:
  circle w0.6: c-12.65,12.65 r0.3
  circle w0.25: c-14.825,13.425 r0.125
  lines w0.2: -13.65,-13.65 13.65,-13.65 13.65,13.65 -13.65,13.65 -13.65,-13.65
Mechanical 13:
  circle w0.1: c-13.1,13.1 r0.5
  lines w0.1: -14,-14 14,-14 14,14 -14,14 -14,-14
Mechanical 15:
  lines w0.1: -0.5,0 0.5,0 ; 0,-0.5 0,0.5 ; -15.7,-15.7 15.7,-15.7 15.7,15.7 -15.7,15.7 -15.7,-15.7
3D body: height 4.02, standoff 0, extent -14,-14 14,14

## 208Q1_M [mm] "208-Pin Shrink Quad Flat Pack 0.5 mm Pitch, IPC Low Density      [ PCBѧϰȺ514746572 ]"
height 4.02
pads (208):
  oval 2.1x0.3 smd: 1(-14.9,12.75) 2(-14.9,12.25) 3(-14.9,11.75) 4(-14.9,11.25) 5(-14.9,10.75) 6(-14.9,10.25) 7(-14.9,9.75) 8(-14.9,9.25) 9(-14.9,8.75) 10(-14.9,8.25) 11(-14.9,7.75) 12(-14.9,7.25) 13(-14.9,6.75) 14(-14.9,6.25) 15(-14.9,5.75) 16(-14.9,5.25) 17(-14.9,4.75) 18(-14.9,4.25) 19(-14.9,3.75) 20(-14.9,3.25) 21(-14.9,2.75) 22(-14.9,2.25) 23(-14.9,1.75) 24(-14.9,1.25) 25(-14.9,0.75) 26(-14.9,0.25) 27(-14.9,-0.25) 28(-14.9,-0.75) 29(-14.9,-1.25) 30(-14.9,-1.75) 31(-14.9,-2.25) 32(-14.9,-2.75) 33(-14.9,-3.25) 34(-14.9,-3.75) 35(-14.9,-4.25) 36(-14.9,-4.75) 37(-14.9,-5.25) 38(-14.9,-5.75) 39(-14.9,-6.25) 40(-14.9,-6.75) 41(-14.9,-7.25) 42(-14.9,-7.75) 43(-14.9,-8.25) 44(-14.9,-8.75) 45(-14.9,-9.25) 46(-14.9,-9.75) 47(-14.9,-10.25) 48(-14.9,-10.75) 49(-14.9,-11.25) 50(-14.9,-11.75) 51(-14.9,-12.25) 52(-14.9,-12.75) 105(14.9,-12.75) 106(14.9,-12.25) 107(14.9,-11.75) 108(14.9,-11.25) 109(14.9,-10.75) 110(14.9,-10.25) 111(14.9,-9.75) 112(14.9,-9.25) 113(14.9,-8.75) 114(14.9,-8.25) 115(14.9,-7.75) 116(14.9,-7.25) 117(14.9,-6.75) 118(14.9,-6.25) 119(14.9,-5.75) 120(14.9,-5.25) 121(14.9,-4.75) 122(14.9,-4.25) 123(14.9,-3.75) 124(14.9,-3.25) 125(14.9,-2.75) 126(14.9,-2.25) 127(14.9,-1.75) 128(14.9,-1.25) 129(14.9,-0.75) 130(14.9,-0.25) 131(14.9,0.25) 132(14.9,0.75) 133(14.9,1.25) 134(14.9,1.75) 135(14.9,2.25) 136(14.9,2.75) 137(14.9,3.25) 138(14.9,3.75) 139(14.9,4.25) 140(14.9,4.75) 141(14.9,5.25) 142(14.9,5.75) 143(14.9,6.25) 144(14.9,6.75) 145(14.9,7.25) 146(14.9,7.75) 147(14.9,8.25) 148(14.9,8.75) 149(14.9,9.25) 150(14.9,9.75) 151(14.9,10.25) 152(14.9,10.75) 153(14.9,11.25) 154(14.9,11.75) 155(14.9,12.25) 156(14.9,12.75)
  oval 0.3x2.1 smd: 53(-12.75,-14.9) 54(-12.25,-14.9) 55(-11.75,-14.9) 56(-11.25,-14.9) 57(-10.75,-14.9) 58(-10.25,-14.9) 59(-9.75,-14.9) 60(-9.25,-14.9) 61(-8.75,-14.9) 62(-8.25,-14.9) 63(-7.75,-14.9) 64(-7.25,-14.9) 65(-6.75,-14.9) 66(-6.25,-14.9) 67(-5.75,-14.9) 68(-5.25,-14.9) 69(-4.75,-14.9) 70(-4.25,-14.9) 71(-3.75,-14.9) 72(-3.25,-14.9) 73(-2.75,-14.9) 74(-2.25,-14.9) 75(-1.75,-14.9) 76(-1.25,-14.9) 77(-0.75,-14.9) 78(-0.25,-14.9) 79(0.25,-14.9) 80(0.75,-14.9) 81(1.25,-14.9) 82(1.75,-14.9) 83(2.25,-14.9) 84(2.75,-14.9) 85(3.25,-14.9) 86(3.75,-14.9) 87(4.25,-14.9) 88(4.75,-14.9) 89(5.25,-14.9) 90(5.75,-14.9) 91(6.25,-14.9) 92(6.75,-14.9) 93(7.25,-14.9) 94(7.75,-14.9) 95(8.25,-14.9) 96(8.75,-14.9) 97(9.25,-14.9) 98(9.75,-14.9) 99(10.25,-14.9) 100(10.75,-14.9) 101(11.25,-14.9) 102(11.75,-14.9) 103(12.25,-14.9) 104(12.75,-14.9) 157(12.75,14.9) 158(12.25,14.9) 159(11.75,14.9) 160(11.25,14.9) 161(10.75,14.9) 162(10.25,14.9) 163(9.75,14.9) 164(9.25,14.9) 165(8.75,14.9) 166(8.25,14.9) 167(7.75,14.9) 168(7.25,14.9) 169(6.75,14.9) 170(6.25,14.9) 171(5.75,14.9) 172(5.25,14.9) 173(4.75,14.9) 174(4.25,14.9) 175(3.75,14.9) 176(3.25,14.9) 177(2.75,14.9) 178(2.25,14.9) 179(1.75,14.9) 180(1.25,14.9) 181(0.75,14.9) 182(0.25,14.9) 183(-0.25,14.9) 184(-0.75,14.9) 185(-1.25,14.9) 186(-1.75,14.9) 187(-2.25,14.9) 188(-2.75,14.9) 189(-3.25,14.9) 190(-3.75,14.9) 191(-4.25,14.9) 192(-4.75,14.9) 193(-5.25,14.9) 194(-5.75,14.9) 195(-6.25,14.9) 196(-6.75,14.9) 197(-7.25,14.9) 198(-7.75,14.9) 199(-8.25,14.9) 200(-8.75,14.9) 201(-9.25,14.9) 202(-9.75,14.9) 203(-10.25,14.9) 204(-10.75,14.9) 205(-11.25,14.9) 206(-11.75,14.9) 207(-12.25,14.9) 208(-12.75,14.9)
Top Overlay:
  circle w0.25: c-14.9,13.45 r0.125
  circle w0.6: c-12.45,12.45 r0.3
  lines w0.2: -13.45,-13.45 -13.45,13.45 13.45,13.45 13.45,-13.45 -13.45,-13.45
Mechanical 13:
  circle w0.1: c-13.1,13.1 r0.5
  lines w0.1: -14,-14 -14,14 14,14 14,-14 -14,-14
Mechanical 15:
  lines w0.1: -0.5,0 0.5,0 ; 0,-0.5 0,0.5 ; -16.45,-16.45 -16.45,16.45 16.45,16.45 16.45,-16.45 -16.45,-16.45
3D body: height 4.02, standoff 0, extent -14,-14 14,14

## 208Q1_N [mm] "208-Pin Shrink Quad Flat Pack 0.5 mm Pitch, IPC Medium Density      [ PCBѧϰȺ514746572 ]"
height 4.02
pads (208):
  oval 1.8x0.3 smd: 1(-14.85,12.75) 2(-14.85,12.25) 3(-14.85,11.75) 4(-14.85,11.25) 5(-14.85,10.75) 6(-14.85,10.25) 7(-14.85,9.75) 8(-14.85,9.25) 9(-14.85,8.75) 10(-14.85,8.25) 11(-14.85,7.75) 12(-14.85,7.25) 13(-14.85,6.75) 14(-14.85,6.25) 15(-14.85,5.75) 16(-14.85,5.25) 17(-14.85,4.75) 18(-14.85,4.25) 19(-14.85,3.75) 20(-14.85,3.25) 21(-14.85,2.75) 22(-14.85,2.25) 23(-14.85,1.75) 24(-14.85,1.25) 25(-14.85,0.75) 26(-14.85,0.25) 27(-14.85,-0.25) 28(-14.85,-0.75) 29(-14.85,-1.25) 30(-14.85,-1.75) 31(-14.85,-2.25) 32(-14.85,-2.75) 33(-14.85,-3.25) 34(-14.85,-3.75) 35(-14.85,-4.25) 36(-14.85,-4.75) 37(-14.85,-5.25) 38(-14.85,-5.75) 39(-14.85,-6.25) 40(-14.85,-6.75) 41(-14.85,-7.25) 42(-14.85,-7.75) 43(-14.85,-8.25) 44(-14.85,-8.75) 45(-14.85,-9.25) 46(-14.85,-9.75) 47(-14.85,-10.25) 48(-14.85,-10.75) 49(-14.85,-11.25) 50(-14.85,-11.75) 51(-14.85,-12.25) 52(-14.85,-12.75) 105(14.85,-12.75) 106(14.85,-12.25) 107(14.85,-11.75) 108(14.85,-11.25) 109(14.85,-10.75) 110(14.85,-10.25) 111(14.85,-9.75) 112(14.85,-9.25) 113(14.85,-8.75) 114(14.85,-8.25) 115(14.85,-7.75) 116(14.85,-7.25) 117(14.85,-6.75) 118(14.85,-6.25) 119(14.85,-5.75) 120(14.85,-5.25) 121(14.85,-4.75) 122(14.85,-4.25) 123(14.85,-3.75) 124(14.85,-3.25) 125(14.85,-2.75) 126(14.85,-2.25) 127(14.85,-1.75) 128(14.85,-1.25) 129(14.85,-0.75) 130(14.85,-0.25) 131(14.85,0.25) 132(14.85,0.75) 133(14.85,1.25) 134(14.85,1.75) 135(14.85,2.25) 136(14.85,2.75) 137(14.85,3.25) 138(14.85,3.75) 139(14.85,4.25) 140(14.85,4.75) 141(14.85,5.25) 142(14.85,5.75) 143(14.85,6.25) 144(14.85,6.75) 145(14.85,7.25) 146(14.85,7.75) 147(14.85,8.25) 148(14.85,8.75) 149(14.85,9.25) 150(14.85,9.75) 151(14.85,10.25) 152(14.85,10.75) 153(14.85,11.25) 154(14.85,11.75) 155(14.85,12.25) 156(14.85,12.75)
  oval 0.3x1.8 smd: 53(-12.75,-14.85) 54(-12.25,-14.85) 55(-11.75,-14.85) 56(-11.25,-14.85) 57(-10.75,-14.85) 58(-10.25,-14.85) 59(-9.75,-14.85) 60(-9.25,-14.85) 61(-8.75,-14.85) 62(-8.25,-14.85) 63(-7.75,-14.85) 64(-7.25,-14.85) 65(-6.75,-14.85) 66(-6.25,-14.85) 67(-5.75,-14.85) 68(-5.25,-14.85) 69(-4.75,-14.85) 70(-4.25,-14.85) 71(-3.75,-14.85) 72(-3.25,-14.85) 73(-2.75,-14.85) 74(-2.25,-14.85) 75(-1.75,-14.85) 76(-1.25,-14.85) 77(-0.75,-14.85) 78(-0.25,-14.85) 79(0.25,-14.85) 80(0.75,-14.85) 81(1.25,-14.85) 82(1.75,-14.85) 83(2.25,-14.85) 84(2.75,-14.85) 85(3.25,-14.85) 86(3.75,-14.85) 87(4.25,-14.85) 88(4.75,-14.85) 89(5.25,-14.85) 90(5.75,-14.85) 91(6.25,-14.85) 92(6.75,-14.85) 93(7.25,-14.85) 94(7.75,-14.85) 95(8.25,-14.85) 96(8.75,-14.85) 97(9.25,-14.85) 98(9.75,-14.85) 99(10.25,-14.85) 100(10.75,-14.85) 101(11.25,-14.85) 102(11.75,-14.85) 103(12.25,-14.85) 104(12.75,-14.85) 157(12.75,14.85) 158(12.25,14.85) 159(11.75,14.85) 160(11.25,14.85) 161(10.75,14.85) 162(10.25,14.85) 163(9.75,14.85) 164(9.25,14.85) 165(8.75,14.85) 166(8.25,14.85) 167(7.75,14.85) 168(7.25,14.85) 169(6.75,14.85) 170(6.25,14.85) 171(5.75,14.85) 172(5.25,14.85) 173(4.75,14.85) 174(4.25,14.85) 175(3.75,14.85) 176(3.25,14.85) 177(2.75,14.85) 178(2.25,14.85) 179(1.75,14.85) 180(1.25,14.85) 181(0.75,14.85) 182(0.25,14.85) 183(-0.25,14.85) 184(-0.75,14.85) 185(-1.25,14.85) 186(-1.75,14.85) 187(-2.25,14.85) 188(-2.75,14.85) 189(-3.25,14.85) 190(-3.75,14.85) 191(-4.25,14.85) 192(-4.75,14.85) 193(-5.25,14.85) 194(-5.75,14.85) 195(-6.25,14.85) 196(-6.75,14.85) 197(-7.25,14.85) 198(-7.75,14.85) 199(-8.25,14.85) 200(-8.75,14.85) 201(-9.25,14.85) 202(-9.75,14.85) 203(-10.25,14.85) 204(-10.75,14.85) 205(-11.25,14.85) 206(-11.75,14.85) 207(-12.25,14.85) 208(-12.75,14.85)
Top Overlay:
  circle w0.25: c-14.85,13.45 r0.125
  circle w0.6: c-12.55,12.55 r0.3
  lines w0.2: -13.55,-13.55 -13.55,13.55 13.55,13.55 13.55,-13.55 -13.55,-13.55
Mechanical 13:
  circle w0.1: c-13.1,13.1 r0.5
  lines w0.1: -14,-14 -14,14 14,14 14,-14 -14,-14
Mechanical 15:
  lines w0.1: -0.5,0 0.5,0 ; 0,-0.5 0,0.5 ; -16,-16 -16,16 16,16 16,-16 -16,-16
3D body: height 4.02, standoff 0, extent -14,-14 14,14

## 208Q2_L [mm] "208-Pin Plastic Shrink Quad Flat Pack 0.5 mm Pitch, IPC High Density      [ PCBѧϰȺ514746572 ]"
height 3.78
pads (208):
  oval 1.55x0.25 smd: 1(-14.825,12.75) 2(-14.825,12.25) 3(-14.825,11.75) 4(-14.825,11.25) 5(-14.825,10.75) 6(-14.825,10.25) 7(-14.825,9.75) 8(-14.825,9.25) 9(-14.825,8.75) 10(-14.825,8.25) 11(-14.825,7.75) 12(-14.825,7.25) 13(-14.825,6.75) 14(-14.825,6.25) 15(-14.825,5.75) 16(-14.825,5.25) 17(-14.825,4.75) 18(-14.825,4.25) 19(-14.825,3.75) 20(-14.825,3.25) 21(-14.825,2.75) 22(-14.825,2.25) 23(-14.825,1.75) 24(-14.825,1.25) 25(-14.825,0.75) 26(-14.825,0.25) 27(-14.825,-0.25) 28(-14.825,-0.75) 29(-14.825,-1.25) 30(-14.825,-1.75) 31(-14.825,-2.25) 32(-14.825,-2.75) 33(-14.825,-3.25) 34(-14.825,-3.75) 35(-14.825,-4.25) 36(-14.825,-4.75) 37(-14.825,-5.25) 38(-14.825,-5.75) 39(-14.825,-6.25) 40(-14.825,-6.75) 41(-14.825,-7.25) 42(-14.825,-7.75) 43(-14.825,-8.25) 44(-14.825,-8.75) 45(-14.825,-9.25) 46(-14.825,-9.75) 47(-14.825,-10.25) 48(-14.825,-10.75) 49(-14.825,-11.25) 50(-14.825,-11.75) 51(-14.825,-12.25) 52(-14.825,-12.75) 105(14.825,-12.75) 106(14.825,-12.25) 107(14.825,-11.75) 108(14.825,-11.25) 109(14.825,-10.75) 110(14.825,-10.25) 111(14.825,-9.75) 112(14.825,-9.25) 113(14.825,-8.75) 114(14.825,-8.25) 115(14.825,-7.75) 116(14.825,-7.25) 117(14.825,-6.75) 118(14.825,-6.25) 119(14.825,-5.75) 120(14.825,-5.25) 121(14.825,-4.75) 122(14.825,-4.25) 123(14.825,-3.75) 124(14.825,-3.25) 125(14.825,-2.75) 126(14.825,-2.25) 127(14.825,-1.75) 128(14.825,-1.25) 129(14.825,-0.75) 130(14.825,-0.25) 131(14.825,0.25) 132(14.825,0.75) 133(14.825,1.25) 134(14.825,1.75) 135(14.825,2.25) 136(14.825,2.75) 137(14.825,3.25) 138(14.825,3.75) 139(14.825,4.25) 140(14.825,4.75) 141(14.825,5.25) 142(14.825,5.75) 143(14.825,6.25) 144(14.825,6.75) 145(14.825,7.25) 146(14.825,7.75) 147(14.825,8.25) 148(14.825,8.75) 149(14.825,9.25) 150(14.825,9.75) 151(14.825,10.25) 152(14.825,10.75) 153(14.825,11.25) 154(14.825,11.75) 155(14.825,12.25) 156(14.825,12.75)
  oval 0.25x1.55 smd: 53(-12.75,-14.825) 54(-12.25,-14.825) 55(-11.75,-14.825) 56(-11.25,-14.825) 57(-10.75,-14.825) 58(-10.25,-14.825) 59(-9.75,-14.825) 60(-9.25,-14.825) 61(-8.75,-14.825) 62(-8.25,-14.825) 63(-7.75,-14.825) 64(-7.25,-14.825) 65(-6.75,-14.825) 66(-6.25,-14.825) 67(-5.75,-14.825) 68(-5.25,-14.825) 69(-4.75,-14.825) 70(-4.25,-14.825) 71(-3.75,-14.825) 72(-3.25,-14.825) 73(-2.75,-14.825) 74(-2.25,-14.825) 75(-1.75,-14.825) 76(-1.25,-14.825) 77(-0.75,-14.825) 78(-0.25,-14.825) 79(0.25,-14.825) 80(0.75,-14.825) 81(1.25,-14.825) 82(1.75,-14.825) 83(2.25,-14.825) 84(2.75,-14.825) 85(3.25,-14.825) 86(3.75,-14.825) 87(4.25,-14.825) 88(4.75,-14.825) 89(5.25,-14.825) 90(5.75,-14.825) 91(6.25,-14.825) 92(6.75,-14.825) 93(7.25,-14.825) 94(7.75,-14.825) 95(8.25,-14.825) 96(8.75,-14.825) 97(9.25,-14.825) 98(9.75,-14.825) 99(10.25,-14.825) 100(10.75,-14.825) 101(11.25,-14.825) 102(11.75,-14.825) 103(12.25,-14.825) 104(12.75,-14.825) 157(12.75,14.825) 158(12.25,14.825) 159(11.75,14.825) 160(11.25,14.825) 161(10.75,14.825) 162(10.25,14.825) 163(9.75,14.825) 164(9.25,14.825) 165(8.75,14.825) 166(8.25,14.825) 167(7.75,14.825) 168(7.25,14.825) 169(6.75,14.825) 170(6.25,14.825) 171(5.75,14.825) 172(5.25,14.825) 173(4.75,14.825) 174(4.25,14.825) 175(3.75,14.825) 176(3.25,14.825) 177(2.75,14.825) 178(2.25,14.825) 179(1.75,14.825) 180(1.25,14.825) 181(0.75,14.825) 182(0.25,14.825) 183(-0.25,14.825) 184(-0.75,14.825) 185(-1.25,14.825) 186(-1.75,14.825) 187(-2.25,14.825) 188(-2.75,14.825) 189(-3.25,14.825) 190(-3.75,14.825) 191(-4.25,14.825) 192(-4.75,14.825) 193(-5.25,14.825) 194(-5.75,14.825) 195(-6.25,14.825) 196(-6.75,14.825) 197(-7.25,14.825) 198(-7.75,14.825) 199(-8.25,14.825) 200(-8.75,14.825) 201(-9.25,14.825) 202(-9.75,14.825) 203(-10.25,14.825) 204(-10.75,14.825) 205(-11.25,14.825) 206(-11.75,14.825) 207(-12.25,14.825) 208(-12.75,14.825)
Top Overlay:
  circle w0.6: c-12.65,12.65 r0.3
  circle w0.25: c-14.825,13.425 r0.125
  lines w0.2: -13.65,-13.65 13.65,-13.65 13.65,13.65 -13.65,13.65 -13.65,-13.65
Mechanical 13:
  circle w0.1: c-13.1,13.1 r0.5
  lines w0.1: -14,-14 14,-14 14,14 -14,14 -14,-14
Mechanical 15:
  lines w0.1: -0.5,0 0.5,0 ; 0,-0.5 0,0.5 ; -15.7,-15.7 15.7,-15.7 15.7,15.7 -15.7,15.7 -15.7,-15.7
3D body: height 3.78, standoff 0, extent -14,-14 14,14

## 208Q2_M [mm] "208-Pin Plastic Shrink Quad Flat Pack 0.5 mm Pitch, IPC Low Density      [ PCBѧϰȺ514746572 ]"
height 3.78
pads (208):
  oval 2.1x0.3 smd: 1(-14.9,12.75) 2(-14.9,12.25) 3(-14.9,11.75) 4(-14.9,11.25) 5(-14.9,10.75) 6(-14.9,10.25) 7(-14.9,9.75) 8(-14.9,9.25) 9(-14.9,8.75) 10(-14.9,8.25) 11(-14.9,7.75) 12(-14.9,7.25) 13(-14.9,6.75) 14(-14.9,6.25) 15(-14.9,5.75) 16(-14.9,5.25) 17(-14.9,4.75) 18(-14.9,4.25) 19(-14.9,3.75) 20(-14.9,3.25) 21(-14.9,2.75) 22(-14.9,2.25) 23(-14.9,1.75) 24(-14.9,1.25) 25(-14.9,0.75) 26(-14.9,0.25) 27(-14.9,-0.25) 28(-14.9,-0.75) 29(-14.9,-1.25) 30(-14.9,-1.75) 31(-14.9,-2.25) 32(-14.9,-2.75) 33(-14.9,-3.25) 34(-14.9,-3.75) 35(-14.9,-4.25) 36(-14.9,-4.75) 37(-14.9,-5.25) 38(-14.9,-5.75) 39(-14.9,-6.25) 40(-14.9,-6.75) 41(-14.9,-7.25) 42(-14.9,-7.75) 43(-14.9,-8.25) 44(-14.9,-8.75) 45(-14.9,-9.25) 46(-14.9,-9.75) 47(-14.9,-10.25) 48(-14.9,-10.75) 49(-14.9,-11.25) 50(-14.9,-11.75) 51(-14.9,-12.25) 52(-14.9,-12.75) 105(14.9,-12.75) 106(14.9,-12.25) 107(14.9,-11.75) 108(14.9,-11.25) 109(14.9,-10.75) 110(14.9,-10.25) 111(14.9,-9.75) 112(14.9,-9.25) 113(14.9,-8.75) 114(14.9,-8.25) 115(14.9,-7.75) 116(14.9,-7.25) 117(14.9,-6.75) 118(14.9,-6.25) 119(14.9,-5.75) 120(14.9,-5.25) 121(14.9,-4.75) 122(14.9,-4.25) 123(14.9,-3.75) 124(14.9,-3.25) 125(14.9,-2.75) 126(14.9,-2.25) 127(14.9,-1.75) 128(14.9,-1.25) 129(14.9,-0.75) 130(14.9,-0.25) 131(14.9,0.25) 132(14.9,0.75) 133(14.9,1.25) 134(14.9,1.75) 135(14.9,2.25) 136(14.9,2.75) 137(14.9,3.25) 138(14.9,3.75) 139(14.9,4.25) 140(14.9,4.75) 141(14.9,5.25) 142(14.9,5.75) 143(14.9,6.25) 144(14.9,6.75) 145(14.9,7.25) 146(14.9,7.75) 147(14.9,8.25) 148(14.9,8.75) 149(14.9,9.25) 150(14.9,9.75) 151(14.9,10.25) 152(14.9,10.75) 153(14.9,11.25) 154(14.9,11.75) 155(14.9,12.25) 156(14.9,12.75)
  oval 0.3x2.1 smd: 53(-12.75,-14.9) 54(-12.25,-14.9) 55(-11.75,-14.9) 56(-11.25,-14.9) 57(-10.75,-14.9) 58(-10.25,-14.9) 59(-9.75,-14.9) 60(-9.25,-14.9) 61(-8.75,-14.9) 62(-8.25,-14.9) 63(-7.75,-14.9) 64(-7.25,-14.9) 65(-6.75,-14.9) 66(-6.25,-14.9) 67(-5.75,-14.9) 68(-5.25,-14.9) 69(-4.75,-14.9) 70(-4.25,-14.9) 71(-3.75,-14.9) 72(-3.25,-14.9) 73(-2.75,-14.9) 74(-2.25,-14.9) 75(-1.75,-14.9) 76(-1.25,-14.9) 77(-0.75,-14.9) 78(-0.25,-14.9) 79(0.25,-14.9) 80(0.75,-14.9) 81(1.25,-14.9) 82(1.75,-14.9) 83(2.25,-14.9) 84(2.75,-14.9) 85(3.25,-14.9) 86(3.75,-14.9) 87(4.25,-14.9) 88(4.75,-14.9) 89(5.25,-14.9) 90(5.75,-14.9) 91(6.25,-14.9) 92(6.75,-14.9) 93(7.25,-14.9) 94(7.75,-14.9) 95(8.25,-14.9) 96(8.75,-14.9) 97(9.25,-14.9) 98(9.75,-14.9) 99(10.25,-14.9) 100(10.75,-14.9) 101(11.25,-14.9) 102(11.75,-14.9) 103(12.25,-14.9) 104(12.75,-14.9) 157(12.75,14.9) 158(12.25,14.9) 159(11.75,14.9) 160(11.25,14.9) 161(10.75,14.9) 162(10.25,14.9) 163(9.75,14.9) 164(9.25,14.9) 165(8.75,14.9) 166(8.25,14.9) 167(7.75,14.9) 168(7.25,14.9) 169(6.75,14.9) 170(6.25,14.9) 171(5.75,14.9) 172(5.25,14.9) 173(4.75,14.9) 174(4.25,14.9) 175(3.75,14.9) 176(3.25,14.9) 177(2.75,14.9) 178(2.25,14.9) 179(1.75,14.9) 180(1.25,14.9) 181(0.75,14.9) 182(0.25,14.9) 183(-0.25,14.9) 184(-0.75,14.9) 185(-1.25,14.9) 186(-1.75,14.9) 187(-2.25,14.9) 188(-2.75,14.9) 189(-3.25,14.9) 190(-3.75,14.9) 191(-4.25,14.9) 192(-4.75,14.9) 193(-5.25,14.9) 194(-5.75,14.9) 195(-6.25,14.9) 196(-6.75,14.9) 197(-7.25,14.9) 198(-7.75,14.9) 199(-8.25,14.9) 200(-8.75,14.9) 201(-9.25,14.9) 202(-9.75,14.9) 203(-10.25,14.9) 204(-10.75,14.9) 205(-11.25,14.9) 206(-11.75,14.9) 207(-12.25,14.9) 208(-12.75,14.9)
Top Overlay:
  circle w0.25: c-14.9,13.45 r0.125
  circle w0.6: c-12.45,12.45 r0.3
  lines w0.2: -13.45,-13.45 -13.45,13.45 13.45,13.45 13.45,-13.45 -13.45,-13.45
Mechanical 13:
  circle w0.1: c-13.1,13.1 r0.5
  lines w0.1: -14,-14 -14,14 14,14 14,-14 -14,-14
Mechanical 15:
  lines w0.1: -0.5,0 0.5,0 ; 0,-0.5 0,0.5 ; -16.45,-16.45 -16.45,16.45 16.45,16.45 16.45,-16.45 -16.45,-16.45
3D body: height 3.78, standoff 0, extent -14,-14 14,14

## 208Q2_N [mm] "208-Pin Plastic Shrink Quad Flat Pack 0.5 mm Pitch, IPC Medium Density      [ PCBѧϰȺ514746572 ]"
height 3.78
pads (208):
  oval 1.8x0.3 smd: 1(-14.85,12.75) 2(-14.85,12.25) 3(-14.85,11.75) 4(-14.85,11.25) 5(-14.85,10.75) 6(-14.85,10.25) 7(-14.85,9.75) 8(-14.85,9.25) 9(-14.85,8.75) 10(-14.85,8.25) 11(-14.85,7.75) 12(-14.85,7.25) 13(-14.85,6.75) 14(-14.85,6.25) 15(-14.85,5.75) 16(-14.85,5.25) 17(-14.85,4.75) 18(-14.85,4.25) 19(-14.85,3.75) 20(-14.85,3.25) 21(-14.85,2.75) 22(-14.85,2.25) 23(-14.85,1.75) 24(-14.85,1.25) 25(-14.85,0.75) 26(-14.85,0.25) 27(-14.85,-0.25) 28(-14.85,-0.75) 29(-14.85,-1.25) 30(-14.85,-1.75) 31(-14.85,-2.25) 32(-14.85,-2.75) 33(-14.85,-3.25) 34(-14.85,-3.75) 35(-14.85,-4.25) 36(-14.85,-4.75) 37(-14.85,-5.25) 38(-14.85,-5.75) 39(-14.85,-6.25) 40(-14.85,-6.75) 41(-14.85,-7.25) 42(-14.85,-7.75) 43(-14.85,-8.25) 44(-14.85,-8.75) 45(-14.85,-9.25) 46(-14.85,-9.75) 47(-14.85,-10.25) 48(-14.85,-10.75) 49(-14.85,-11.25) 50(-14.85,-11.75) 51(-14.85,-12.25) 52(-14.85,-12.75) 105(14.85,-12.75) 106(14.85,-12.25) 107(14.85,-11.75) 108(14.85,-11.25) 109(14.85,-10.75) 110(14.85,-10.25) 111(14.85,-9.75) 112(14.85,-9.25) 113(14.85,-8.75) 114(14.85,-8.25) 115(14.85,-7.75) 116(14.85,-7.25) 117(14.85,-6.75) 118(14.85,-6.25) 119(14.85,-5.75) 120(14.85,-5.25) 121(14.85,-4.75) 122(14.85,-4.25) 123(14.85,-3.75) 124(14.85,-3.25) 125(14.85,-2.75) 126(14.85,-2.25) 127(14.85,-1.75) 128(14.85,-1.25) 129(14.85,-0.75) 130(14.85,-0.25) 131(14.85,0.25) 132(14.85,0.75) 133(14.85,1.25) 134(14.85,1.75) 135(14.85,2.25) 136(14.85,2.75) 137(14.85,3.25) 138(14.85,3.75) 139(14.85,4.25) 140(14.85,4.75) 141(14.85,5.25) 142(14.85,5.75) 143(14.85,6.25) 144(14.85,6.75) 145(14.85,7.25) 146(14.85,7.75) 147(14.85,8.25) 148(14.85,8.75) 149(14.85,9.25) 150(14.85,9.75) 151(14.85,10.25) 152(14.85,10.75) 153(14.85,11.25) 154(14.85,11.75) 155(14.85,12.25) 156(14.85,12.75)
  oval 0.3x1.8 smd: 53(-12.75,-14.85) 54(-12.25,-14.85) 55(-11.75,-14.85) 56(-11.25,-14.85) 57(-10.75,-14.85) 58(-10.25,-14.85) 59(-9.75,-14.85) 60(-9.25,-14.85) 61(-8.75,-14.85) 62(-8.25,-14.85) 63(-7.75,-14.85) 64(-7.25,-14.85) 65(-6.75,-14.85) 66(-6.25,-14.85) 67(-5.75,-14.85) 68(-5.25,-14.85) 69(-4.75,-14.85) 70(-4.25,-14.85) 71(-3.75,-14.85) 72(-3.25,-14.85) 73(-2.75,-14.85) 74(-2.25,-14.85) 75(-1.75,-14.85) 76(-1.25,-14.85) 77(-0.75,-14.85) 78(-0.25,-14.85) 79(0.25,-14.85) 80(0.75,-14.85) 81(1.25,-14.85) 82(1.75,-14.85) 83(2.25,-14.85) 84(2.75,-14.85) 85(3.25,-14.85) 86(3.75,-14.85) 87(4.25,-14.85) 88(4.75,-14.85) 89(5.25,-14.85) 90(5.75,-14.85) 91(6.25,-14.85) 92(6.75,-14.85) 93(7.25,-14.85) 94(7.75,-14.85) 95(8.25,-14.85) 96(8.75,-14.85) 97(9.25,-14.85) 98(9.75,-14.85) 99(10.25,-14.85) 100(10.75,-14.85) 101(11.25,-14.85) 102(11.75,-14.85) 103(12.25,-14.85) 104(12.75,-14.85) 157(12.75,14.85) 158(12.25,14.85) 159(11.75,14.85) 160(11.25,14.85) 161(10.75,14.85) 162(10.25,14.85) 163(9.75,14.85) 164(9.25,14.85) 165(8.75,14.85) 166(8.25,14.85) 167(7.75,14.85) 168(7.25,14.85) 169(6.75,14.85) 170(6.25,14.85) 171(5.75,14.85) 172(5.25,14.85) 173(4.75,14.85) 174(4.25,14.85) 175(3.75,14.85) 176(3.25,14.85) 177(2.75,14.85) 178(2.25,14.85) 179(1.75,14.85) 180(1.25,14.85) 181(0.75,14.85) 182(0.25,14.85) 183(-0.25,14.85) 184(-0.75,14.85) 185(-1.25,14.85) 186(-1.75,14.85) 187(-2.25,14.85) 188(-2.75,14.85) 189(-3.25,14.85) 190(-3.75,14.85) 191(-4.25,14.85) 192(-4.75,14.85) 193(-5.25,14.85) 194(-5.75,14.85) 195(-6.25,14.85) 196(-6.75,14.85) 197(-7.25,14.85) 198(-7.75,14.85) 199(-8.25,14.85) 200(-8.75,14.85) 201(-9.25,14.85) 202(-9.75,14.85) 203(-10.25,14.85) 204(-10.75,14.85) 205(-11.25,14.85) 206(-11.75,14.85) 207(-12.25,14.85) 208(-12.75,14.85)
Top Overlay:
  circle w0.6: c-12.55,12.55 r0.3
  circle w0.25: c-14.85,13.45 r0.125
  lines w0.2: -13.55,-13.55 13.55,-13.55 13.55,13.55 -13.55,13.55 -13.55,-13.55
Mechanical 13:
  circle w0.1: c-13.1,13.1 r0.5
  lines w0.1: -14,-14 14,-14 14,14 -14,14 -14,-14
Mechanical 15:
  lines w0.1: -0.5,0 0.5,0 ; 0,-0.5 0,0.5 ; -16,-16 16,-16 16,16 -16,16 -16,-16
3D body: height 3.78, standoff 0, extent -14,-14 14,14